# Altium footprint library mainBoard.PcbLib: 12 footprints
Each footprint in its own frame and in the unit in brackets; x right, y up, seen from the top. Pads: shape width x height; smd on the part's side, far side on the other; paste and mask are expansions set on the pad; w line width, h text height; cw(c..) or ccw(c..) is an arc to the next point about the centre after c.
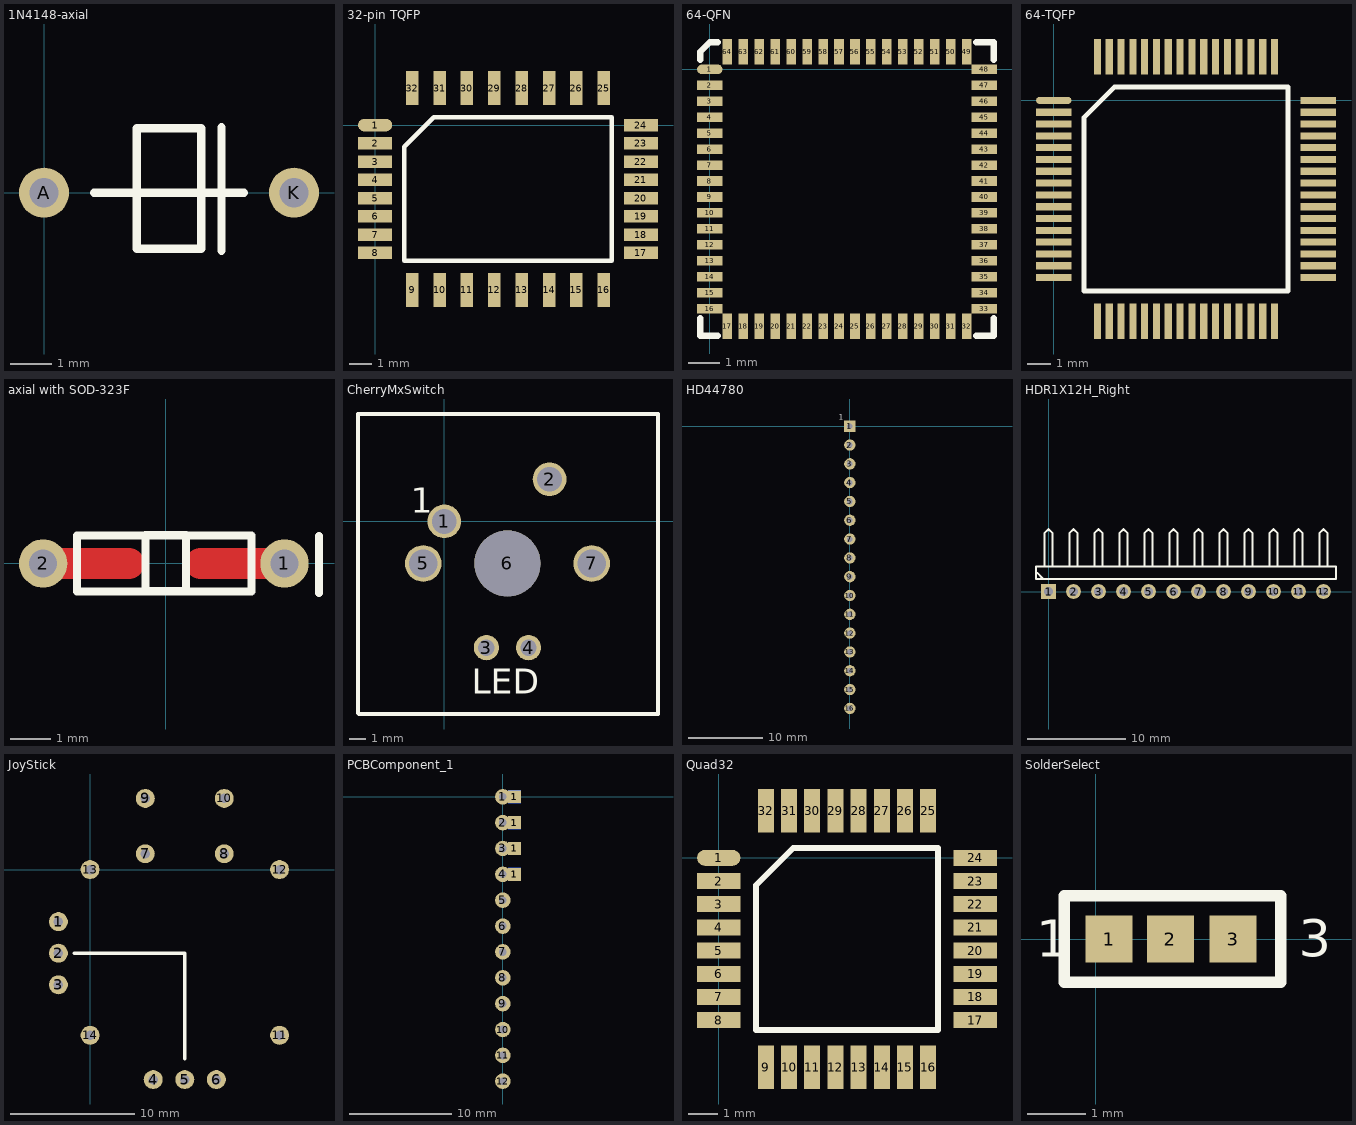
[diagram p0: the footprints below, top view; thin cyan lines are the x and y axes]

## 1N4148-axial [mm]
pads (2):
  round 1.2 hole 0.7: A(0,0) K(6,0)
Top Overlay:
  lines w0.2: 1.2,0 3.775,0 ; 2.225,0 4.8,0 ; 4.258,-1.397 4.258,1.575 ; 3.775,0 3.775,-1.346 2.225,-1.346 2.225,1.549 3.775,1.549 3.775,0

## 32-pin TQFP [mm]
pads (32):
  oval 1.5x0.55 smd: 1(0,0)
  rect 1.5x0.55 smd: 2(0,-0.8) 3(0,-1.6) 4(0,-2.4) 5(0,-3.2) 6(0,-4) 7(0,-4.8) 8(0,-5.6) 17(11.65,-5.6) 18(11.65,-4.8) 19(11.65,-4) 20(11.65,-3.2) 21(11.65,-2.4) 22(11.65,-1.6) 23(11.65,-0.8) 24(11.65,0)
  rect 0.55x1.5 smd: 9(1.625,-7.225) 10(2.825,-7.225) 11(4.025,-7.225) 12(5.225,-7.225) 13(6.425,-7.225) 14(7.625,-7.225) 15(8.825,-7.225) 16(10.025,-7.225) 25(10.025,1.625) 26(8.825,1.625) 27(7.625,1.625) 28(6.425,1.625) 29(5.225,1.625) 30(4.025,1.625) 31(2.825,1.625) 32(1.625,1.625)
Top Overlay:
  lines w0.2: 1.285,-5.94 10.365,-5.94 10.365,0.34 2.57,0.34 1.285,-0.945 1.285,-5.94

## 64-QFN [mm]
pads (64):
  oval 0.8x0.3 smd: 1(0,0)
  rect 0.8x0.3 smd: 2(0,-0.5) 3(0,-1) 4(0,-1.5) 5(0,-2) 6(0,-2.5) 7(0,-3) 8(0,-3.5) 9(0,-4) 10(0,-4.5) 11(0,-5) 12(0,-5.5) 13(0,-6) 14(0,-6.5) 15(0,-7) 16(0,-7.5) 33(8.6,-7.5) 34(8.6,-7) 35(8.6,-6.5) 36(8.6,-6) 37(8.6,-5.5) 38(8.6,-5) 39(8.6,-4.5) 40(8.6,-4) 41(8.6,-3.5) 42(8.6,-3) 43(8.6,-2.5) 44(8.6,-2) 45(8.6,-1.5) 46(8.6,-1) 47(8.6,-0.5) 48(8.6,0)
  rect 0.3x0.8 smd: 17(0.55,-8.05) 18(1.05,-8.05) 19(1.55,-8.05) 20(2.05,-8.05) 21(2.55,-8.05) 22(3.05,-8.05) 23(3.55,-8.05) 24(4.05,-8.05) 25(4.55,-8.05) 26(5.05,-8.05) 27(5.55,-8.05) 28(6.05,-8.05) 29(6.55,-8.05) 30(7.05,-8.05) 31(7.55,-8.05) 32(8.05,-8.05) 49(8.05,0.55) 50(7.55,0.55) 51(7.05,0.55) 52(6.55,0.55) 53(6.05,0.55) 54(5.55,0.55) 55(5.05,0.55) 56(4.55,0.55) 57(4.05,0.55) 58(3.55,0.55) 59(3.05,0.55) 60(2.55,0.55) 61(2.05,0.55) 62(1.55,0.55) 63(1.05,0.55) 64(0.55,0.55)
Top Overlay:
  lines w0.2: -0.3,-7.8 -0.3,-8.35 0.25,-8.35 ; -0.3,0.3 -0.3,0.55 0,0.85 0.25,0.85 ; 8.35,-8.35 8.9,-8.35 8.9,-7.8 ; 8.35,0.85 8.9,0.85 8.9,0.3

## 64-TQFP [mm]
pads (64):
  oval 1.5x0.3 smd: 1(0,0)
  rect 1.5x0.3 smd: 2(0,-0.5) 3(0,-1) 4(0,-1.5) 5(0,-2) 6(0,-2.5) 7(0,-3) 8(0,-3.5) 9(0,-4) 10(0,-4.5) 11(0,-5) 12(0,-5.5) 13(0,-6) 14(0,-6.5) 15(0,-7) 16(0,-7.5) 33(11.2,-7.5) 34(11.2,-7) 35(11.2,-6.5) 36(11.2,-6) 37(11.2,-5.5) 38(11.2,-5) 39(11.2,-4.5) 40(11.2,-4) 41(11.2,-3.5) 42(11.2,-3) 43(11.2,-2.5) 44(11.2,-2) 45(11.2,-1.5) 46(11.2,-1) 47(11.2,-0.5) 48(11.2,0)
  rect 0.3x1.5 smd: 17(1.85,-9.35) 18(2.35,-9.35) 19(2.85,-9.35) 20(3.35,-9.35) 21(3.85,-9.35) 22(4.35,-9.35) 23(4.85,-9.35) 24(5.35,-9.35) 25(5.85,-9.35) 26(6.35,-9.35) 27(6.85,-9.35) 28(7.35,-9.35) 29(7.85,-9.35) 30(8.35,-9.35) 31(8.85,-9.35) 32(9.35,-9.35) 49(9.35,1.85) 50(8.85,1.85) 51(8.35,1.85) 52(7.85,1.85) 53(7.35,1.85) 54(6.85,1.85) 55(6.35,1.85) 56(5.85,1.85) 57(5.35,1.85) 58(4.85,1.85) 59(4.35,1.85) 60(3.85,1.85) 61(3.35,1.85) 62(2.85,1.85) 63(2.35,1.85) 64(1.85,1.85)
Top Overlay:
  lines w0.2: 1.285,-8.065 9.915,-8.065 9.915,0.565 2.57,0.565 1.285,-0.72 1.285,-8.065

## axial with SOD-323F [mm]
pads (2):
  round 1.2 hole 0.7: 1(2.952,0) 2(-3.048,0)
Top Layer:
  lines w0.762: -3.048,0 -0.914,0 ; 0.864,0 2.921,0
Top Overlay:
  lines w0.2: 3.81,-0.737 3.81,0.686 ; -2.21,-0.7 2.134,-0.7 2.134,0.7 -2.21,0.7 -2.21,0.089 -2.21,-0.7 ; -0.508,-0.686 0.508,-0.686 0.508,0.244 0.508,0.711 -0.508,0.711 -0.508,-0.686
Top Solder:
  rectangle: -1.981,-0.356 -0.737,0.406
  rectangle: 0.686,-0.356 1.93,0.406

## CherryMxSwitch [mil] "Cherry Mx Switch with holes for LED"
pads (7):
  round 80 hole 59: 1(0,0) 2(250,100)
  round 60 hole 39: 3(100,-300) 4(200,-300)
  round 87 hole 67: 5(-50,-100) 7(350,-100)
  round 157 hole 157 unplated: 6(150,-100)
Top Overlay:
  lines w10: -205,-455 -205,255 507.5,255 507.5,-457.5 -202.5,-457.5 -205,-455
  text "LED" at 65,-410 h60
  text "1" at -80,20 h60

## HD44780 [mil] "HD44780 Display"
pads (16):
  rect 60x60 hole 30 square: 1(0,0)
  round 60 hole 30: 2(0,-100) 3(0,-200) 4(0,-300) 5(0,-400) 6(0,-500) 7(0,-600) 8(0,-700) 9(0,-800) 10(0,-900) 11(0,-1000) 12(0,-1100) 13(0,-1200) 14(0,-1300) 15(0,-1400) 16(0,-1500)
Top Overlay:
  text "1" at -60,35 h30

## HDR1X12H_Right [mm] "Connector; Header; 12 Position; Right Angle"
pads (12):
  rect 1.5x1.5 hole 0.9: 1(0,0)
  round 1.5 hole 0.9: 2(2.54,0) 3(5.08,0) 4(7.62,0) 5(10.16,0) 6(12.7,0) 7(15.24,0) 8(17.78,0) 9(20.32,0) 10(22.86,0) 11(25.4,0) 12(27.94,0)
Top Overlay:
  lines w0.2: -1.143,1.905 -0.508,1.27 ; -0.423,2.54 -0.423,5.927 0,6.35 0.423,5.927 0.423,2.54 ; 2.117,2.54 2.117,5.927 2.54,6.35 2.963,5.927 2.963,2.54 ; 4.657,2.54 4.657,5.927 5.08,6.35 5.503,5.927 5.503,2.54 ; 7.197,2.54 7.197,5.927 7.62,6.35 8.043,5.927 8.043,2.54 ; 9.737,2.54 9.737,5.927 10.16,6.35 10.583,5.927 10.583,2.54 ; 12.277,2.54 12.277,5.927 12.7,6.35 13.123,5.927 13.123,2.54 ; 14.817,2.54 14.817,5.927 15.24,6.35 15.663,5.927 15.663,2.54 ; 17.357,2.54 17.357,5.927 17.78,6.35 18.203,5.927 18.203,2.54 ; 19.897,2.54 19.897,5.927 20.32,6.35 20.743,5.927 20.743,2.54 ; 22.437,2.54 22.437,5.927 22.86,6.35 23.283,5.927 23.283,2.54 ; 24.977,2.54 24.977,5.927 25.4,6.35 25.823,5.927 25.823,2.54 ; 27.517,2.54 27.517,5.927 27.94,6.35 28.363,5.927 28.363,2.54 ; -1.27,1.27 27.305,1.27 29.21,1.27 29.21,2.54 -1.27,2.54 -1.27,1.27

## JoyStick [mil] "Joystick with 2 axis, and 1 push button."
pads (14):
  round 60 hole 30: 1(-100,-165) 2(-100,-265) 3(-100,-365) 4(200,-665) 5(300,-665) 6(400,-665) 7(175,50) 8(425,50) 9(175,225) 10(425,225) 11(600,-525) 12(600,0) 13(0,0) 14(0,-525)
Top Overlay:
  lines w10: -50,-265 300,-265 300,-600

## PCBComponent_1 [mil]
pads (20):
  round 60 hole 30: 1(0,0) 2(0,-100) 3(0,-200) 4(0,-300) 5(0,-400) 6(0,-500) 7(0,-600) 8(0,-700) 9(0,-800) 10(0,-900) 11(0,-1000) 12(0,-1100)
  rect 50x50 smd: 1(45,-300) 1(45,-200) 1(45,-100) 1(45,0)
  rect 50x50 smd far side: 1(45,-300) 1(45,-200) 1(45,-100) 1(45,0)

## Quad32 [mm]
pads (32):
  oval 1.5x0.55 smd: 1(0,0)
  rect 1.5x0.55 smd: 2(0,-0.8) 3(0,-1.6) 4(0,-2.4) 5(0,-3.2) 6(0,-4) 7(0,-4.8) 8(0,-5.6) 17(8.85,-5.6) 18(8.85,-4.8) 19(8.85,-4) 20(8.85,-3.2) 21(8.85,-2.4) 22(8.85,-1.6) 23(8.85,-0.8) 24(8.85,0)
  rect 0.55x1.5 smd: 9(1.625,-7.225) 10(2.425,-7.225) 11(3.225,-7.225) 12(4.025,-7.225) 13(4.825,-7.225) 14(5.625,-7.225) 15(6.425,-7.225) 16(7.225,-7.225) 25(7.225,1.625) 26(6.425,1.625) 27(5.625,1.625) 28(4.825,1.625) 29(4.025,1.625) 30(3.225,1.625) 31(2.425,1.625) 32(1.625,1.625)
Top Overlay:
  lines w0.2: 1.285,-5.94 7.565,-5.94 7.565,0.34 2.57,0.34 1.285,-0.945 1.285,-5.94

## SolderSelect [mm]
pads (3):
  rect 0.8x0.8 smd: 1(0.229,0) 2(1.27,0) 3(2.337,0)
Top Overlay:
  lines w0.2: -0.533,-0.737 3.15,-0.737 3.15,0.737 -0.533,0.737 -0.533,0.555 -0.533,-0.737
  text "3" at 3.454,-0.305 h0.64
  text "1" at -1.016,-0.305 h0.64
Top Solder:
  rectangle: 1.753,-0.508 2.057,0.508
  rectangle: 0.483,-0.508 0.787,0.508